# EAGLE library part RA2?* (library df4iah_relay)
MICROWAVE RELAY FOR ATTENUATOR CIRCUIT NAiS Source: http://www.mew-europe.com/.. en_ds_61308_0000.pdf
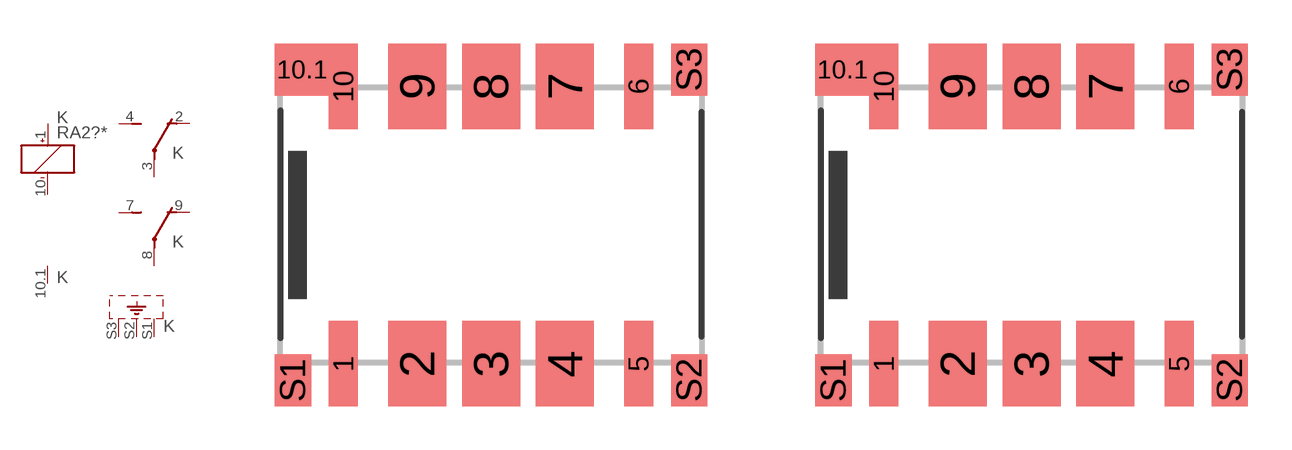
[diagram p98: symbol with the pads of RA; footprints RA, RA-1COIL]

Designator prefix K; gates 1=K+- 2=U 3=U 4=K-PIN S1=SHIELD-3

## RA200A03 (MPN: ARA200A03; OC_FARNELL: unknown; OC_NEWARK: 13P1235), RA200A05 (OC_FARNELL: unknown; OC_NEWARK: unknown), RA200A06 (OC_FARNELL: unknown; OC_NEWARK: unknown), RA200A09 (OC_FARNELL: unknown; OC_NEWARK: unknown), RA200A12 (OC_FARNELL: unknown; OC_NEWARK: unknown), RA200A1H (OC_FARNELL: unknown; OC_NEWARK: unknown), RA200A24 (OC_FARNELL: unknown; OC_NEWARK: unknown), RA200A48 (OC_FARNELL: unknown; OC_NEWARK: unknown), RA200A4V (OC_FARNELL: unknown; OC_NEWARK: unknown)  [RA]
1  1:+  pas
2  2:O  pas
3  2:P  pas
4  2:S  pas
7  3:S  pas
8  3:P  pas
9  3:O  pas
10  1:-  pas
10.1  4:-  pas
S1  S1:SH  pas
S2  S1:SH  pas
S3  S1:SH  pas

## RA210A03 (OC_FARNELL: unknown; OC_NEWARK: unknown), RA210A05 (MF: AROMAT/ MATSUSHITA; MPN: ARA210A05; OC_FARNELL: unknown; OC_NEWARK: 10C4091), RA210A06 (MF: AROMAT/ MATSUSHITA; MPN: ARA210A06; OC_FARNELL: unknown; OC_NEWARK: 10C4092), RA210A09 (OC_FARNELL: unknown; OC_NEWARK: unknown), RA210A12 (MF: AROMAT/ MATSUSHITA; MPN: ARA210A12; OC_FARNELL: unknown; OC_NEWARK: 64K3073), RA210A1H (OC_FARNELL: unknown; OC_NEWARK: unknown), RA210A24 (OC_FARNELL: unknown; OC_NEWARK: unknown), RA210A4H (MF: AROMAT/ MATSUSHITA; MPN: ARA210A4H; OC_FARNELL: unknown; OC_NEWARK: 64K3074)  [RA-1COIL]
1  1:-  pas
2  2:O  pas
3  2:P  pas
4  2:S  pas
7  3:S  pas
8  3:P  pas
9  3:O  pas
10  1:+  pas
10.1  4:-  pas
S1  S1:SH  pas
S2  S1:SH  pas
S3  S1:SH  pas

## Footprint RA (pad centres in mm)
MICROWAVE RELAY FOR ATTENUATOR CIRCUIT NAiS Source: http://www.mew-europe.com/.. en_ds_61308_0000.pdf
smd 1 x 2.94: 1 -5.08,-4.78; 5 5.08,-4.78; 6 5.08,4.78; 10 -5.08,4.78
smd 2 x 2.94: 2 -2.54,-4.78; 3 0,-4.78; 4 2.54,-4.78; 7 2.54,4.78; 8 0,4.78; 9 -2.54,4.78
smd 1.9 x 1.8: 10.1 -6.5,5.35
smd 1.25 x 1.8: S1 -6.82,-5.35; S2 6.82,-5.35; S3 6.82,5.35

## Footprint RA-1COIL (pad centres in mm)
MICROWAVE RELAY FOR ATTENUATOR CIRCUIT NAiS Source: http://www.mew-europe.com/.. en_ds_61308_0000.pdf
smd 1 x 2.94: 1 -5.08,-4.78; 5 5.08,-4.78; 6 5.08,4.78; 10 -5.08,4.78
smd 2 x 2.94: 2 -2.54,-4.78; 3 0,-4.78; 4 2.54,-4.78; 7 2.54,4.78; 8 0,4.78; 9 -2.54,4.78
smd 1.9 x 1.8: 10.1 -6.5,5.35
smd 1.25 x 1.8: S1 -6.82,-5.35; S2 6.82,-5.35; S3 6.82,5.35